# Altium footprint library SON-8.PcbLib: 1 footprints
Each footprint in its own frame and in the unit in brackets; x right, y up, seen from the top. Pads: shape width x height; smd on the part's side, far side on the other; paste and mask are expansions set on the pad; w line width, h text height; cw(c..) or ccw(c..) is an arc to the next point about the centre after c.
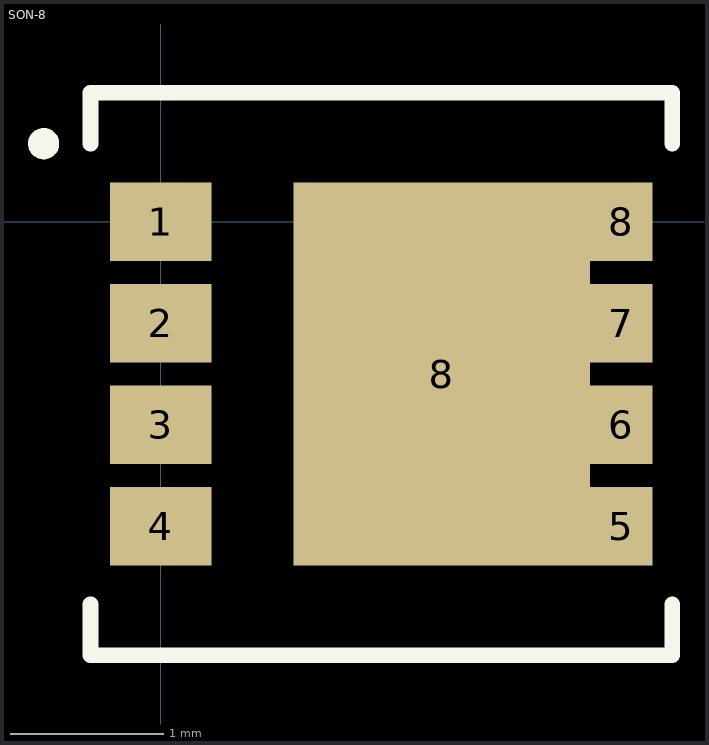
[diagram p0: the footprint, top view; thin cyan lines are the x and y axes]

## SON-8 [mil]
pads (9):
  rect 26x20 smd: 1(0,0) 2(0,-26) 3(0,-52) 4(0,-78)
  rect 16x20 smd: 5(118,-78) 6(118,-52) 7(118,-26) 8(118,0)
  rect 76x98 smd: 8(72,-39)
Top Overlay:
  circle w4: c-30,20 r2
  lines w4: -18,-98 -18,-111 131,-111 131,-98 ; -18,20 -18,33 131,33 131,20
3D body: height 43, standoff 0, extent -11,-106 123,28